# Altium footprint library CONNECTOR.PcbLib: 181 footprints (part 2 of 12)
Each footprint in its own frame and in the unit in brackets; x right, y up, seen from the top. Pads: shape width x height; smd on the part's side, far side on the other; paste and mask are expansions set on the pad; w line width, h text height; cw(c..) or ccw(c..) is an arc to the next point about the centre after c.
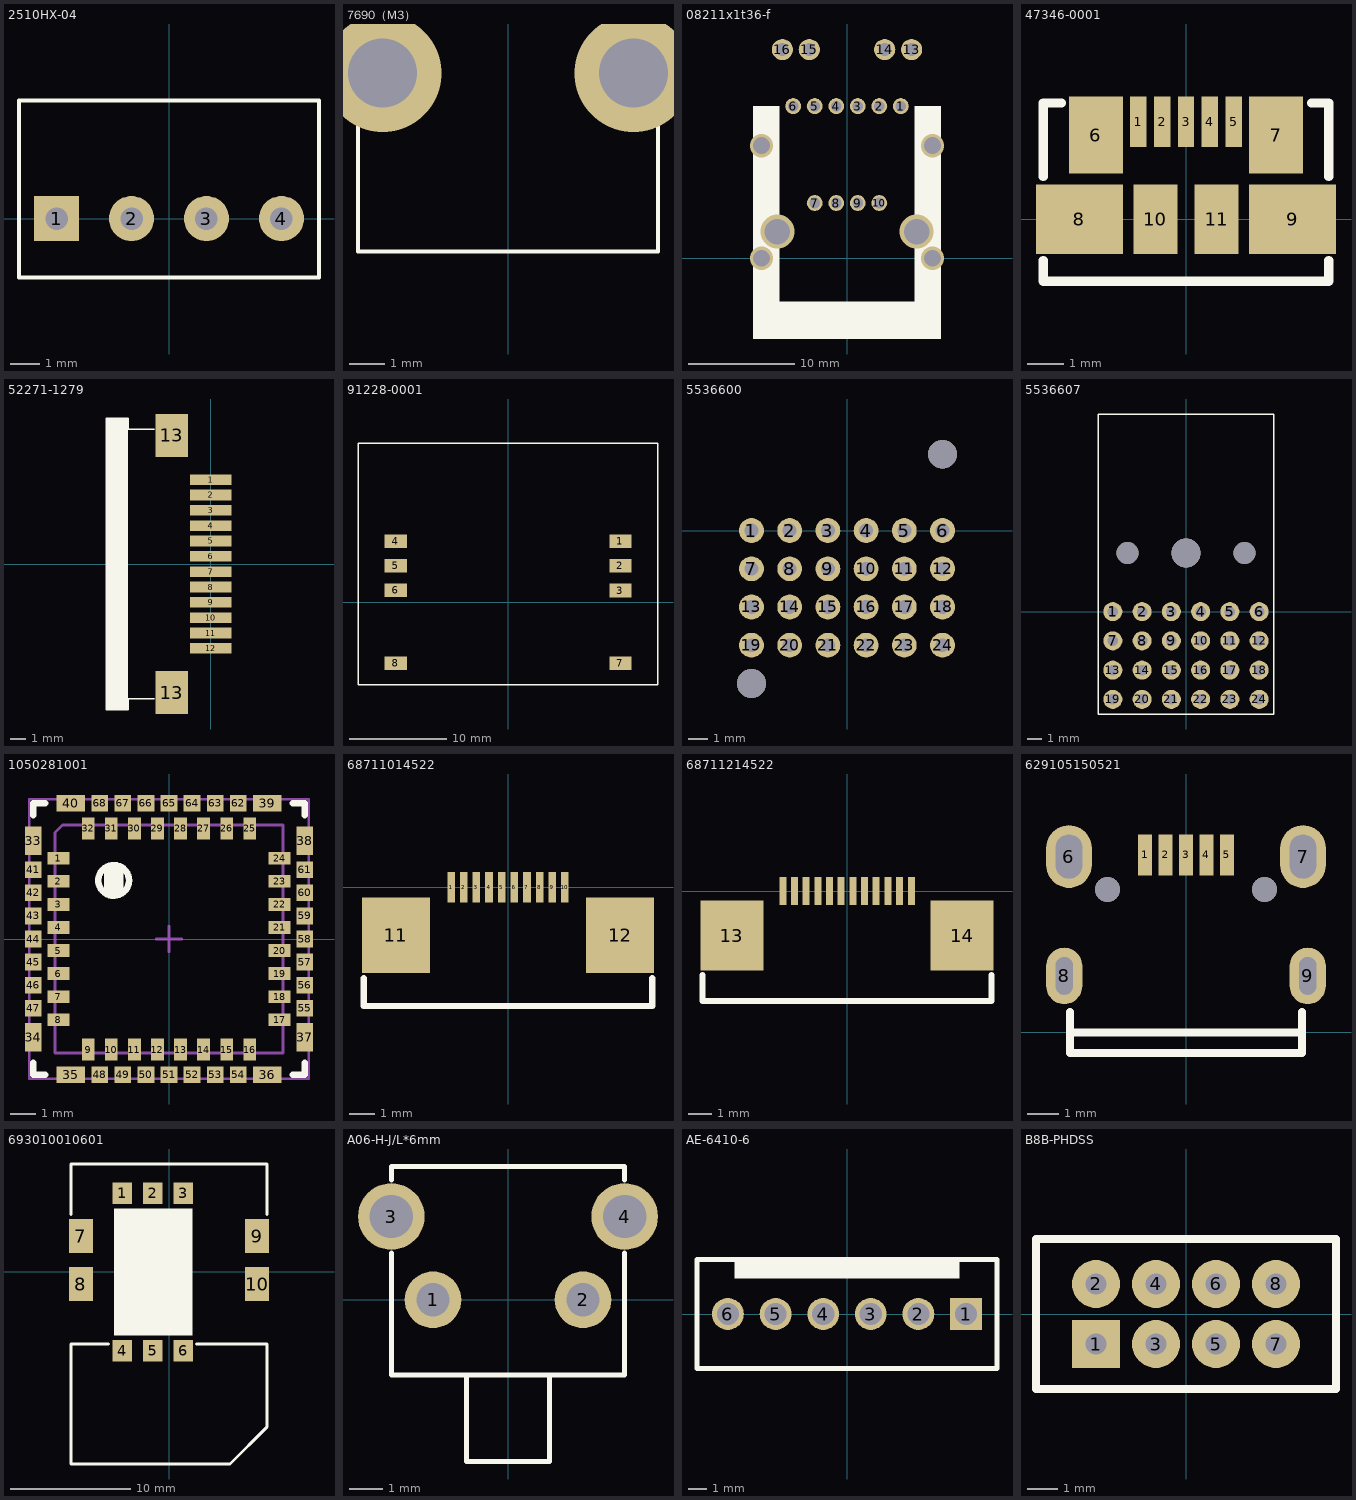
[diagram p1: the footprints below, top view; thin cyan lines are the x and y axes]

## 2510HX-04 [mil]
height 472.44
pads (4):
  rect 60x60 hole 30: 1(-150,0)
  round 60 hole 30: 2(-50,0) 3(50,0) 4(150,0)
Top Overlay:
  lines w5: -200,-78.74 200,-78.74 200,157.48 -200,157.48 -200,-78.74

## 7690（M3） [mm] "PCB接线端子/弯/M3"
height 7.9
via -3.51,2.5 diameter 3.3 hole 1.93
via 3.51,2.5 diameter 3.3 hole 1.93
via -3.51,-2.5 diameter 3.3 hole 1.93
via 3.51,-2.5 diameter 3.3 hole 1.93
Top Overlay:
  lines w0.102: -4.2,-4 -4.2,-7.5 4.2,-7.5 4.2,-4

## 08211x1t36-f [mm]
height 21.082
pads (14):
  round 1.5 hole 1: 1(5.08,14.351) 2(3.048,14.351) 3(1.016,14.351) 4(-1.016,14.351) 5(-3.048,14.351) 6(-5.08,14.351) 7(-3.048,5.207) 8(-1.016,5.207) 9(1.016,5.207) 10(3.048,5.207)
  round 2 hole 1.2: 13(6.096,19.685) 14(3.556,19.685) 15(-3.556,19.685) 16(-6.096,19.685)
via 6.566,2.515 diameter 3.2 hole 2.4
via -6.566,2.515 diameter 3.2 hole 2.4
via 8.064,0 diameter 2.2 hole 1.6
via -8.064,0 diameter 2.2 hole 1.6
via -8.064,10.617 diameter 2.2 hole 1.6
via 8.064,10.617 diameter 2.2 hole 1.6
Top Overlay:
  rectangle: -8.89,-7.62 8.89,-4.064
  rectangle: 6.35,-7.62 8.89,14.351
  rectangle: -8.89,-7.62 -6.35,14.351

## 47346-0001 [mm]
height 2.94
pads (11):
  rect 0.45x1.38 smd: 1(-1.3,2.66) 2(-0.65,2.66) 3(0,2.66) 4(0.65,2.66) 5(1.3,2.66)
  rect 1.475x2.1 smd: 6(-2.462,2.3) 7(2.462,2.3)
  rect 2.375x1.9 smd: 8(-2.913,0) 9(2.913,0)
  rect 1.2x1.9 smd: 10(-0.837,0) 11(0.837,0)
Top Overlay:
  lines w0.254: -3.9,-1.131 -3.9,-1.7 3.9,-1.7 3.9,-1.129 ; -3.9,1.168 -3.9,3.175 -3.404,3.175 ; 3.429,3.175 3.9,3.175 3.9,1.168

## 52271-1279 [mm] "FFC,1mm,12位,底部触点"
height 2.54
pads (14):
  rect 2.7x0.7 smd: 1(0,5.5) 2(0,4.5) 3(0,3.5) 4(0,2.5) 5(0,1.5) 6(0,0.5) 7(0,-0.5) 8(0,-1.5) 9(0,-2.5) 10(0,-3.5) 11(0,-4.5) 12(0,-5.5)
  rect 2.1x2.8 smd: 13(-2.54,-8.382) 13(-2.54,8.382)
Top Overlay:
  rectangle: -6.8,-9.5 -5.4,9.5
  lines w0.102: -3.7,-8.8 -5.4,-8.8 -5.4,-9.5 -6.8,-9.5 -6.8,9.5 -5.4,9.5 -5.4,8.8 -3.7,8.8

## 91228-0001 [mm] "SIM Card tray"
height 3
pads (8):
  rect 2.3x1.4 smd: 1(11.6,6.3) 2(11.6,3.76) 3(11.6,1.22) 4(-11.6,6.3) 5(-11.6,3.76) 6(-11.6,1.26) 7(11.6,-6.3) 8(-11.6,-6.3)
Top Overlay:
  lines w0.152: -15.514,-8.54 15.486,-8.54 15.486,16.46 -15.514,16.46 -15.514,-8.54

## 5536600 [mm] "2mm,4排,电源插座"
height 17
pads (24):
  round 1.3 hole 0.725: 1(-5,0) 2(-3,0) 3(-1,0) 4(1,0) 5(3,0) 6(5,0) 7(-5,-2) 8(-3,-2) 9(-1,-2) 10(1,-2) 11(3,-2) 12(5,-2) 13(-5,-4) 14(-3,-4) 15(-1,-4) 16(1,-4) 17(3,-4) 18(5,-4) 19(-5,-6) 20(-3,-6) 21(-1,-6) 22(1,-6) 23(3,-6) 24(5,-6)
via -5,-8 diameter 1.5 hole 1.5
via 5,4 diameter 1.5 hole 1.5
Bottom Overlay:
  lines w0.102: -6,-9.6 -6,6.1 6,6.1 6,-9.6 -6,-9.6

## 5536607 [mm] "2mm,4排，电源板到板"
height 8.57
pads (24):
  round 1.3 hole 0.725: 1(-5,0) 2(-3,0) 3(-1,0) 4(1,0) 5(3,0) 6(5,0) 7(-5,-2) 8(-3,-2) 9(-1,-2) 10(1,-2) 11(3,-2) 12(5,-2) 13(-5,-4) 14(-3,-4) 15(-1,-4) 16(1,-4) 17(3,-4) 18(5,-4) 19(-5,-6) 20(-3,-6) 21(-1,-6) 22(1,-6) 23(3,-6) 24(5,-6)
via 4,4 diameter 1.5 hole 1.5
via 0,4 diameter 2 hole 2
via -4,4 diameter 1.5 hole 1.5
Top Overlay:
  lines w0.102: -6,-7 -6,13.5 6,13.5 6,-7 -6,-7

## 1050281001 [mm] "flir camera"
height 4.2
pads (68):
  rect 0.84x0.5 smd: 1(-4.31,3.15) 2(-4.31,2.25) 3(-4.31,1.35) 4(-4.31,0.45) 5(-4.31,-0.45) 6(-4.31,-1.35) 7(-4.31,-2.25) 8(-4.31,-3.15) 17(4.31,-3.15) 18(4.31,-2.25) 19(4.31,-1.35) 20(4.31,-0.45) 21(4.31,0.45) 22(4.31,1.35) 23(4.31,2.25) 24(4.31,3.15)
  rect 0.5x0.84 smd: 9(-3.15,-4.31) 10(-2.25,-4.31) 11(-1.35,-4.31) 12(-0.45,-4.31) 13(0.45,-4.31) 14(1.35,-4.31) 15(2.25,-4.31) 16(3.15,-4.31) 25(3.15,4.31) 26(2.25,4.31) 27(1.35,4.31) 28(0.45,4.31) 29(-0.45,4.31) 30(-1.35,4.31) 31(-2.25,4.31) 32(-3.15,4.31)
  rect 0.65x1.1 smd: 33(-5.3,3.83) 34(-5.3,-3.83) 37(5.3,-3.83) 38(5.3,3.83)
  rect 1.1x0.65 smd: 35(-3.83,-5.3) 36(3.83,-5.3) 39(3.83,5.3) 40(-3.83,5.3)
  rect 0.65x0.65 smd: 41(-5.3,2.7) 42(-5.3,1.8) 43(-5.3,0.9) 44(-5.3,0) 45(-5.3,-0.9) 46(-5.3,-1.8) 47(-5.3,-2.7) 48(-2.7,-5.3) 49(-1.8,-5.3) 50(-0.9,-5.3) 51(0,-5.3) 52(0.9,-5.3) 53(1.8,-5.3) 54(2.7,-5.3) 55(5.3,-2.7) 56(5.3,-1.8) 57(5.3,-0.9) 58(5.3,0) 59(5.3,0.9) 60(5.3,1.8) 61(5.3,2.7) 62(2.7,5.3) 63(1.8,5.3) 64(0.9,5.3) 65(0,5.3) 66(-0.9,5.3) 67(-1.8,5.3) 68(-2.7,5.3)
Top Overlay:
  circle w0.25: c-2.157,2.286 r0.6
  rectangle: -2.54,1.778 -1.778,2.794
  lines w0.254: -5.3,-4.826 -5.3,-5.3 -4.826,-5.3 ; -5.3,4.826 -5.3,5.3 -4.826,5.3 ; 4.826,-5.3 5.3,-5.3 5.3,-4.826 ; 4.826,5.3 5.3,5.3 5.3,4.826
Mechanical 13:
  lines w0.1: -4.445,-4.445 -4.445,4.145 -4.145,4.445 4.445,4.445 4.445,-4.445 -4.445,-4.445
Mechanical 15:
  lines w0.1: -0.5,0 0.5,0 ; 0,-0.5 0,0.5 ; -5.45,-5.45 -5.45,5.45 5.45,5.45 5.45,-5.45 -5.45,-5.45
3D body: height 2.54, standoff 0, extent -4.445,-4.445 4.445,4.445

## 68711014522 [mm] "0.5mm pitch FFC"
height 2
pads (12):
  rect 0.3x1.2 smd: 1(-2.25,0) 2(-1.75,0) 3(-1.25,0) 4(-0.75,0) 5(-0.25,0) 6(0.25,0) 7(0.75,0) 8(1.25,0) 9(1.75,0) 10(2.25,0)
  rect 2.7x3 smd: 11(-4.43,-1.9) 12(4.43,-1.9)
Top Overlay:
  lines w0.254: -5.7,-3.6 -5.7,-4.7 5.7,-4.7 5.7,-3.6

## 68711214522 [mm] "0.5mm ZIF FPC"
height 2
pads (14):
  rect 0.3x1.2 smd: 1(-2.739,0) 2(-2.25,0) 3(-1.75,0) 4(-1.25,0) 5(-0.75,0) 6(-0.25,0) 7(0.25,0) 8(0.75,0) 9(1.25,0) 10(1.75,0) 11(2.25,0) 12(2.761,0)
  rect 2.7x3 smd: 13(-4.93,-1.9) 14(4.93,-1.9)
Top Overlay:
  lines w0.254: -6.2,-3.6 -6.2,-4.7 6.2,-4.7 6.2,-3.6

## 629105150521 [mm] "Micro usb"
height 2.6
pads (9):
  rect 0.45x1.3 smd: 1(-1.3,5.65) 2(-0.65,5.65) 3(0,5.65) 4(0.65,5.65) 5(1.3,5.65)
  oval 1.45x2 hole 0.85 slot 1.4 at 90 deg: 6(-3.725,5.6) 7(3.725,5.6)
  oval 1.15x1.8 hole 0.55 slot 1.2 at 90 deg: 8(-3.875,1.8) 9(3.875,1.8)
via 2.5,4.55 diameter 0.8 hole 0.8
via -2.5,4.55 diameter 0.8 hole 0.8
Top Overlay:
  lines w0.254: -3.7,0 3.7,0 ; -3.7,0.65 -3.7,-0.65 3.7,-0.65 3.7,0.65

## 693010010601 [mm]
height 1.7
pads (10):
  rect 1.6x1.8 smd: 1(-3.9,6.55) 2(-1.36,6.55) 3(1.18,6.55) 4(-3.9,-6.55) 5(-1.36,-6.55) 6(1.18,-6.55)
  rect 2x2.8 smd: 7(-7.35,3) 8(-7.35,-1) 9(7.35,3) 10(7.35,-1)
Top Overlay:
  rectangle: -4.597,-5.283 1.956,5.283
  lines w0.254: -8.15,4.797 -8.15,9 8.15,9 8.15,4.797 ; -5.029,-6 -8.15,-6 -8.15,-16 3.683,-16 5.079,-16 8.15,-12.929 8.15,-6 2.286,-6

## A06-H-J/L*6mm [mm] "TOUCH SWITCH 6MM LONG"
height 7
pads (4):
  round 1.7 hole 1: 1(-2.25,0) 2(2.25,0)
  round 2 hole 1.3: 3(-3.5,2.5) 4(3.5,2.5)
Top Overlay:
  lines w0.152: -3.5,1.4 -3.5,-2.25 3.5,-2.25 3.5,1.4 ; -3.5,3.6 -3.5,4 3.5,4 3.5,3.6 ; -1.25,-2.281 -1.25,-4.85 1.25,-4.85 1.25,-2.27

## AE-6410-6 [mm] "MOLEX AE-6410 SERIES,2.54MM"
height 11.17
pads (6):
  rect 1.7x1.7 hole 1.19: 1(6.35,0)
  round 1.7 hole 1.19: 2(3.81,0) 3(1.27,0) 4(-1.27,0) 5(-3.81,0) 6(-6.35,0)
Top Overlay:
  rectangle: -6,1.9 6,2.9
  lines w0.254: -8,-2.9 8,-2.9 8,2.9 -8,2.9 -8,-2.9

## B8B-PHDSS [mm] "JST 2.0mm插座"
height 6.5
pads (8):
  rect 1.6x1.6 hole 0.7: 1(-3,-1)
  round 1.6 hole 0.7: 2(-3,1) 3(-1,-1) 4(-1,1) 5(1,-1) 6(1,1) 7(3,-1) 8(3,1)
Top Overlay:
  lines w0.254: -5,-2.5 -5,2.5 5,2.5 5,-2.5 -5,-2.5